# Altium schematic symbol library Optocoupler SMD.SchLib: 2 symbols
Pins are listed as number, name and electrical type; pins without a type are passive.

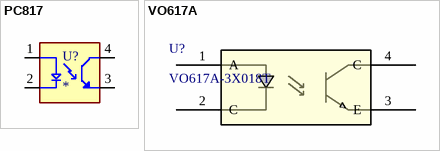
[diagram p0: symbols PC817 to VO617A]

## PC817
designator U?
Optoisolator Transistor Output 5000Vrms 1 Channel 4-SMD; MP: PC817XI; MF: Sharp Microelectronics; Price: None; Availability: In Stock; Package: SMD-4 Sharp Microelectronics; Value: *; SnapEDA_Link: https://www.snapeda.com/parts/PC817XI/Sharp+Microelectronics/view-part/?ref=snap; Purchase-URL: https://pricing.snapeda.com/search/part/PC817XI/?ref=eda; Check_prices: https://www.snapeda.com/parts/PC817XI/Sharp+Microelectronics/view-part/?ref=eda
footprint PC817
pins: 1 A, 2 C, 3 ET, 4 CT

## VO617A
designator U?, comment VO617A-3X018T
VO617A-3X018T Optocoupler Dc-in 1-CH Transistor Dc-out 4-PIN PDIP SMD T/r; NexarPartId: 68099910; Number of Channels: 1
footprint VO617A
pins: 1 A, 2 C, 3 E, 4 C